# EAGLE library part SN74LVC1T45DBVT_SN74LVC1T45DBVT (library DASHBOARD_PARTS_LIB)
BUS Transceiver
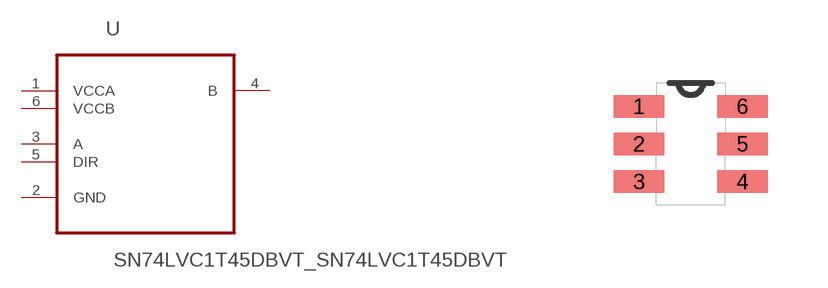
[diagram p3: symbol with the pads of SN74LVC1T45DBVT_SOT95P280X145-6N; footprint SN74LVC1T45DBVT_SOT95P280X145-6N]

Designator prefix U

## SN74LVC1T45DBVT_SN74LVC1T45DBVT (AVAILABILITY: Unavailable; DESCRIPTION: Single-Bit Dual-Supply Bus Transceiver with Configurable Voltage Translation and 3-State Outputs 6-SOT-23 -40 to 85; MF: Texas Instruments; MP: SN74LVC1T45DBVT; PACKAGE: SOT-23-6 Texas Instruments; PRICE: None)  [SN74LVC1T45DBVT_SOT95P280X145-6N]
1  VCCA  pwr
2  GND  pas
3  A  in
4  B  out
5  DIR  in
6  VCCB  pwr

## Footprint SN74LVC1T45DBVT_SOT95P280X145-6N (pad centres in mm)
smd 1.27 x 0.559: 1 -1.295,0.94; 2 -1.295,0; 3 -1.295,-0.94; 4 1.295,-0.94; 5 1.295,0; 6 1.295,0.94